# Altium schematic symbol library VFD.SchLib: 2 symbols
Pins are listed as number, name and electrical type; pins without a type are passive.

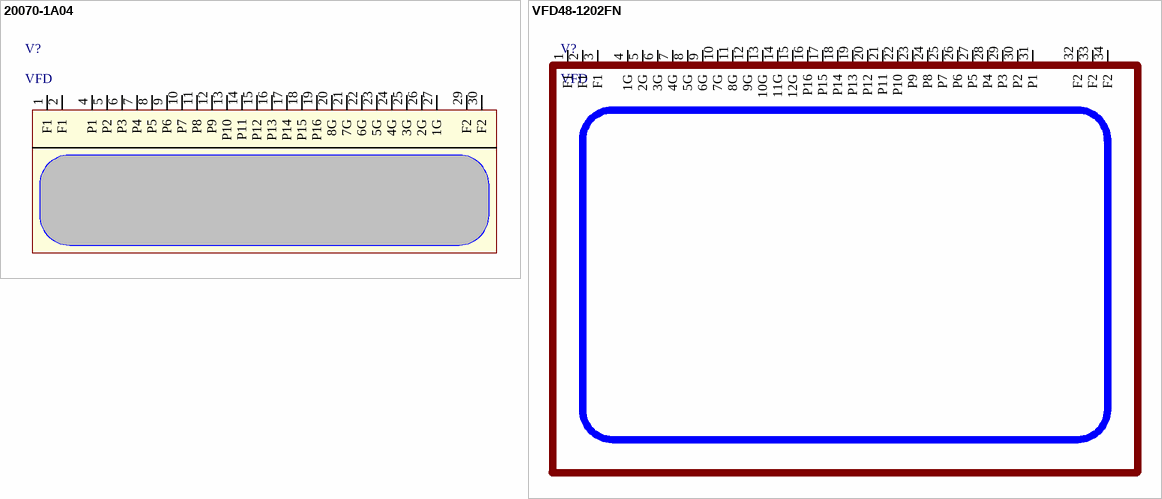
[diagram p0: symbols 20070-1A04 to VFD48-1202FN]

## 20070-1A04
designator V?, comment VFD
8bit VFD
pins: 1 F1, 2 F1, 3 NP hidden, 4 P1, 5 P2, 6 P3, 7 P4, 8 P5, 9 P6, 10 P7, 11 P8, 12 P9, 13 P10, 14 P11, 15 P12, 16 P13, 17 P14, 18 P15, 19 P16, 20 8G, 21 7G, 22 6G, 23 5G, 24 4G, 25 3G, 26 2G, 27 1G, 28 NP hidden, 29 F2, 30 F2

## VFD48-1202FN
designator V?, comment VFD
VFD48-1202FN
footprint VFD48-1202FN
pins: 1 F1, 2 F1, 3 F1, 4 1G, 5 2G, 6 3G, 7 4G, 8 5G, 9 6G, 10 7G, 11 8G, 12 9G, 13 10G, 14 11G, 15 12G, 16 P16, 17 P15, 18 P14, 19 P13, 20 P12, 21 P11, 22 P10, 23 P9, 24 P8, 25 P7, 26 P6, 27 P5, 28 P4, 29 P3, 30 P2, 31 P1, 32 F2, 33 F2, 34 F2